# Altium schematic symbol library Digital_рoten.SchLib: 1 symbol
Pins are listed as number, name and electrical type; pins without a type are passive.

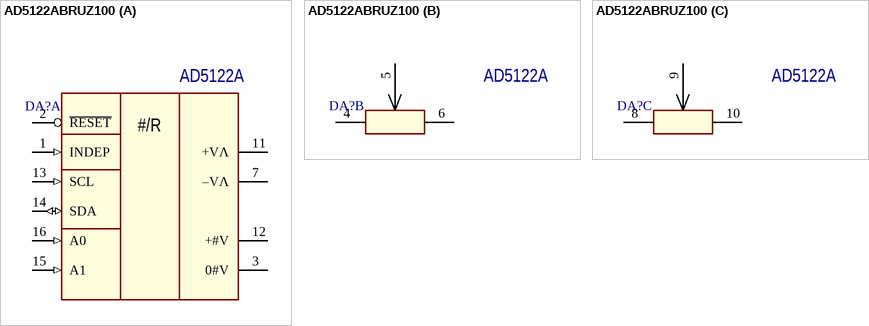
[diagram p0: symbol AD5122ABRUZ100]

## AD5122ABRUZ100
designator DA?, comment AD5122A
Digital potentiometer; Manufacturer: Analog Devices Inc; ComponentLink1URL: http://www.farnell.com/datasheets/1679537.pdf; ComponentLink1Description: Datasheet; Cost: 68,58; Package: TSSOP-16; Supplier: Аргуссофт; ComponentLink2Description: Datasheet-local; ComponentLink2URL: .\datasheets\AD5122A_5142A.pdf; ManufacturerPartNumber: AD5122A
part A pins: 1 INDEP (in), 2 ~{RESET}, 3 0#V (power) "GND", 7 –VΛ (power) "Vss", 11 +VΛ (power) "Vdd", 12 +#V (power) "Vlogic", 13 SCL (in), 14 SDA (io), 15 A1 (in) "ADDR1", 16 A0 (in) "ADDR0"
part B pins: 4 A1, 5 W1, 6 B1
part C pins: 8 A2, 9 W2, 10 B2
part A text: #/R